# Altium footprint library PCB - CONNECTOR - 1_Pin_Header.PcbLib: 1 footprints
Each footprint in its own frame and in the unit in brackets; x right, y up, seen from the top. Pads: shape width x height; smd on the part's side, far side on the other; paste and mask are expansions set on the pad; w line width, h text height; cw(c..) or ccw(c..) is an arc to the next point about the centre after c.
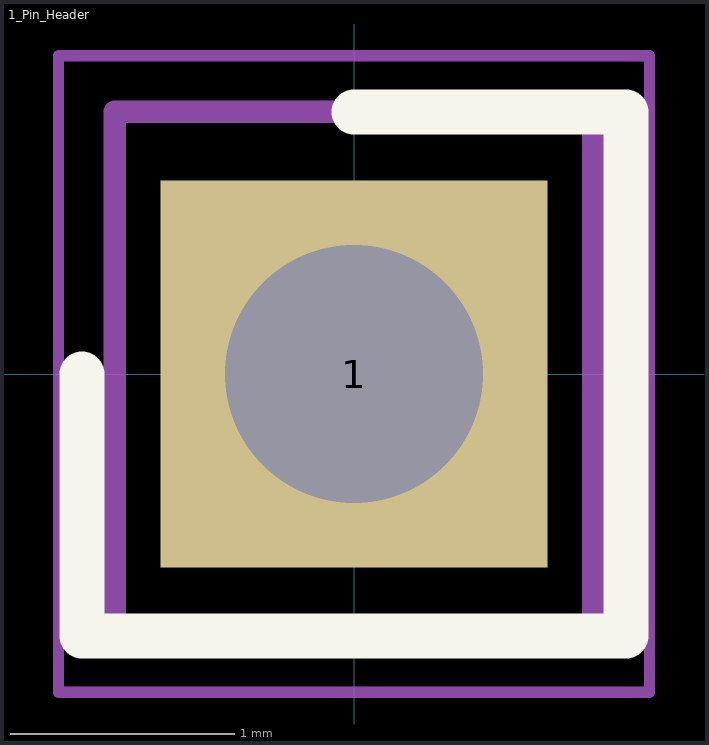
[diagram p0: the footprint, top view; thin cyan lines are the x and y axes]

## 1_Pin_Header [mm]
pads (1):
  rect 1.725x1.725 hole 1.15: 1(0,0)
Top Overlay:
  lines w0.2: -1.212,0 -1.212,-1.168 1.213,-1.168 1.213,1.168 0,1.168
Top Assembly:
  lines w0.1: -1.067,-1.168 -1.067,1.168 1.067,1.168 1.067,-1.168 -1.067,-1.168
Top Courtyard:
  lines w0.05: -1.317,-1.418 -1.317,1.418 1.317,1.418 1.317,-1.418 -1.317,-1.418
Top Designator:
  text ".Designator" at -1.219,1.659 h0.25
Top Component Center:
  lines w0.127: -0.254,0 0,0 ; 0,-0.254 0,0 ; 0,0.254 0,0 ; 0.254,0 0,0
3D body "4-103327-3.stp": height 8.13, standoff -3.04, extent -1.067,-1.168 1.067,1.168